# Altium schematic symbol library WR-USB_USB 3.1.SchLib: 7 symbols
Pins are listed as number, name and electrical type; pins without a type are passive.

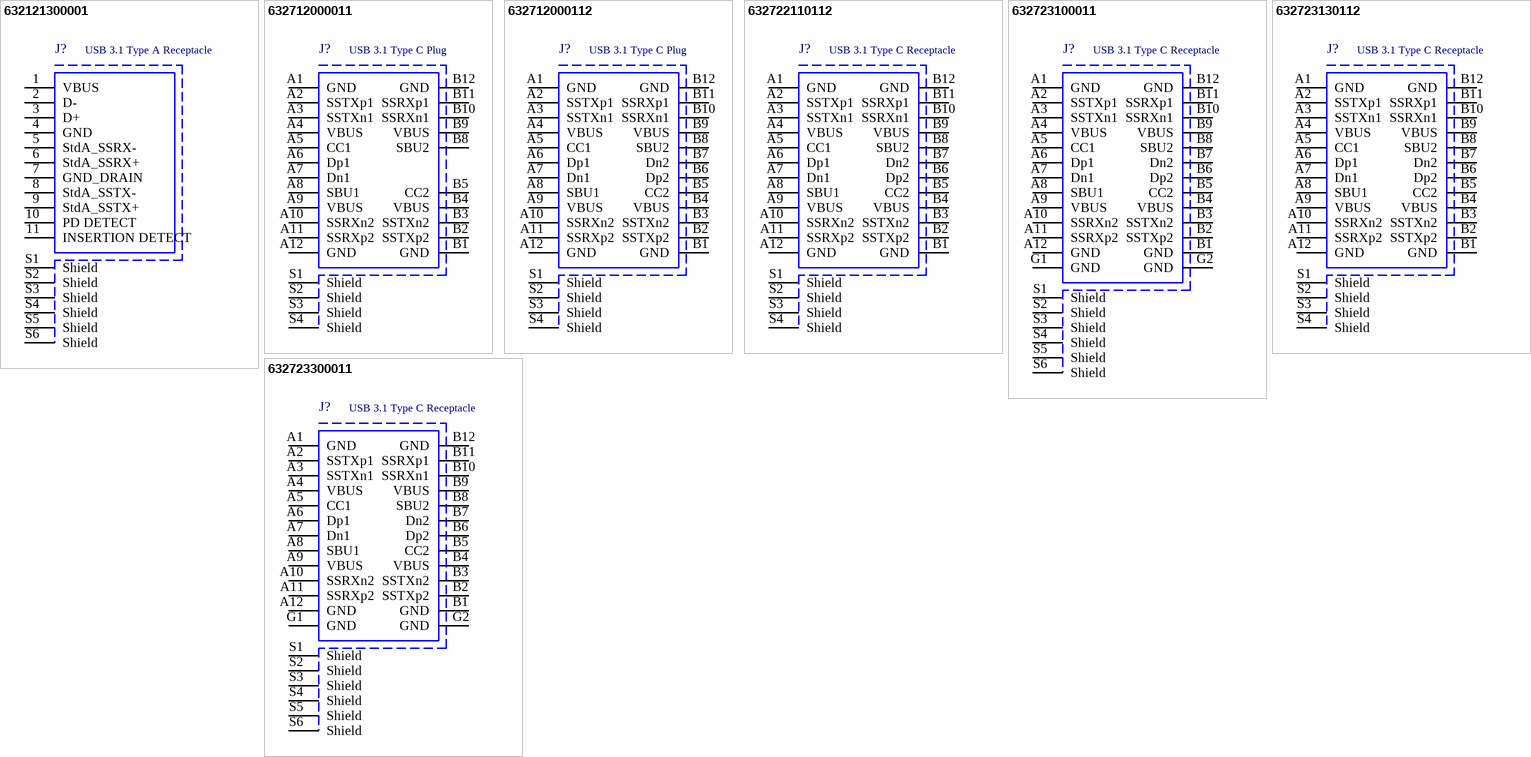
[diagram p0: symbols 632121300001 to 632723300011]

## 632121300001
designator J?, comment USB 3.1 Type A Receptacle
USB 3.1 Type A, Receptacle, Horizontal, THR; Manufacturer: Wurth Elektronik; Manufacturer Part Number: 632121300001; Rated Current: 5A; Pin Number: 9; Interface Type: Type A; Working Voltage: 20VAC; ComponentLink1Description: Manufacturer; ComponentLink1URL: http://www.we-online.de; ComponentLink2Description: Datasheet; ComponentLink2URL: https://katalog.we-online.com/em/datasheet/632121300001.pdf; Published Date: September 2019; Gender: Receptacle; Type: Horizontal; Packaging: Tray; Operating Temperature: -20 to +85degC; Mounting Technology: THR; Application: USB 3.1
footprint 632121300001
pins: 1 VBUS, 2 D-, 3 D+, 4 GND, 5 StdA_SSRX-, 6 StdA_SSRX+, 7 GND_DRAIN, 8 StdA_SSTX-, 9 StdA_SSTX+, 10 PD DETECT, 11 INSERTION DETECT, S1 Shield, S2 Shield, S3 Shield, S4 Shield, S5 Shield, S6 Shield

## 632712000011
designator J?, comment USB 3.1 Type C Plug
USB 3.1 Type C, Plug, Horizontal, SMT; Manufacturer: Wurth Elektronik; Manufacturer Part Number: 632712000011; Rated Current: 5A; Pin Number: 22; Interface Type: Type C; Working Voltage: 20VAC; ComponentLink1Description: Manufacturer; ComponentLink1URL: http://www.we-online.de; ComponentLink2Description: Datasheet; ComponentLink2URL: https://katalog.we-online.com/em/datasheet/632712000011.pdf; Published Date: September 2019; Gender: Plug; Type: Horizontal; Packaging: Tape and Reel; Operating Temperature: -25 to +105degC; Mounting Technology: SMT; Application: USB 3.1
footprint 632712000011
pins: A1 GND, A2 SSTXp1, A3 SSTXn1, A4 VBUS, A5 CC1, A6 Dp1, A7 Dn1, A8 SBU1, A9 VBUS, A10 SSRXn2, A11 SSRXp2, A12 GND, B1 GND, B2 SSTXp2, B3 SSTXn2, B4 VBUS, B5 CC2, B8 SBU2, B9 VBUS, B10 SSRXn1, B11 SSRXp1, B12 GND, S1 Shield, S2 Shield, S3 Shield, S4 Shield

## 632712000112
designator J?, comment USB 3.1 Type C Plug
USB 3.1 Type C, Plug, Horizontal, SMT; Manufacturer: Wurth Elektronik; Manufacturer Part Number: 632712000112; Rated Current: 5A; Pin Number: 24; Interface Type: Type C; Working Voltage: 20VAC; ComponentLink1Description: Manufacturer; ComponentLink1URL: http://www.we-online.de; ComponentLink2Description: Datasheet; ComponentLink2URL: https://katalog.we-online.com/em/datasheet/632712000112.pdf; Published Date: September 2019; Gender: Plug; Type: Horizontal; Packaging: Tray; Operating Temperature: -40 to +85degC; Mounting Technology: SMT; Application: USB 3.1
footprint 632712000112
pins: A1 GND, A2 SSTXp1, A3 SSTXn1, A4 VBUS, A5 CC1, A6 Dp1, A7 Dn1, A8 SBU1, A9 VBUS, A10 SSRXn2, A11 SSRXp2, A12 GND, B1 GND, B2 SSTXp2, B3 SSTXn2, B4 VBUS, B5 CC2, B6 Dp2, B7 Dn2, B8 SBU2, B9 VBUS, B10 SSRXn1, B11 SSRXp1, B12 GND, S1 Shield, S2 Shield, S3 Shield, S4 Shield

## 632722110112
designator J?, comment USB 3.1 Type C Receptacle
USB 3.1 Type C, Receptacle, Vertical, SMT; Manufacturer: Wurth Elektronik; Manufacturer Part Number: 632722110112; Rated Current: 5A; Pin Number: 24; Interface Type: Type C; Working Voltage: 20VAC; ComponentLink1Description: Manufacturer; ComponentLink1URL: http://www.we-online.de; ComponentLink2Description: Datasheet; ComponentLink2URL: https://katalog.we-online.com/em/datasheet/632722110112.pdf; Published Date: September 2019; Gender: Receptacle; Type: Vertical; Packaging: Tape and Reel; Operating Temperature: -40 to +85degC; Mounting Technology: SMT; Application: USB 3.1
footprint 632722110112
pins: A1 GND, A2 SSTXp1, A3 SSTXn1, A4 VBUS, A5 CC1, A6 Dp1, A7 Dn1, A8 SBU1, A9 VBUS, A10 SSRXn2, A11 SSRXp2, A12 GND, B1 GND, B2 SSTXp2, B3 SSTXn2, B4 VBUS, B5 CC2, B6 Dp2, B7 Dn2, B8 SBU2, B9 VBUS, B10 SSRXn1, B11 SSRXp1, B12 GND, S1 Shield, S2 Shield, S3 Shield, S4 Shield

## 632723100011
designator J?, comment USB 3.1 Type C Receptacle
USB 3.1 Type C, Receptacle, Horizontal, THR; Manufacturer: Wurth Elektronik; Manufacturer Part Number: 632723100011; Rated Current: 5A; Pin Number: 24; Interface Type: Type C; Working Voltage: 20VAC; ComponentLink1Description: Manufacturer; ComponentLink1URL: http://www.we-online.de; ComponentLink2Description: Datasheet; ComponentLink2URL: https://katalog.we-online.com/em/datasheet/632723100011.pdf; Published Date: September 2019; Gender: Receptacle; Type: Horizontal; Packaging: Tape and Reel; Operating Temperature: -40 to +105degC; Mounting Technology: THR; Application: USB 3.1
footprint 632723100011
pins: A1 GND, A2 SSTXp1, A3 SSTXn1, A4 VBUS, A5 CC1, A6 Dp1, A7 Dn1, A8 SBU1, A9 VBUS, A10 SSRXn2, A11 SSRXp2, A12 GND, B1 GND, B2 SSTXp2, B3 SSTXn2, B4 VBUS, B5 CC2, B6 Dp2, B7 Dn2, B8 SBU2, B9 VBUS, B10 SSRXn1, B11 SSRXp1, B12 GND, G1 GND, G2 GND, S1 Shield, S2 Shield, S3 Shield, S4 Shield, S5 Shield, S6 Shield

## 632723130112
designator J?, comment USB 3.1 Type C Receptacle
USB 3.1 Type C, Receptacle, Horizontal, THR; Manufacturer: Wurth Elektronik; Manufacturer Part Number: 632723130112; Rated Current: 5A; Pin Number: 24; Interface Type: Type C; Working Voltage: 20VAC; ComponentLink1Description: Manufacturer; ComponentLink1URL: http://www.we-online.de; ComponentLink2Description: Datasheet; ComponentLink2URL: https://katalog.we-online.com/em/datasheet/632723130112.pdf; Published Date: September 2019; Gender: Receptacle; Type: Horizontal; Packaging: Tape and Reel; Operating Temperature: -40 to +85degC; Mounting Technology: THR; Application: USB 3.1
footprint 632723130112
pins: A1 GND, A2 SSTXp1, A3 SSTXn1, A4 VBUS, A5 CC1, A6 Dp1, A7 Dn1, A8 SBU1, A9 VBUS, A10 SSRXn2, A11 SSRXp2, A12 GND, B1 GND, B2 SSTXp2, B3 SSTXn2, B4 VBUS, B5 CC2, B6 Dp2, B7 Dn2, B8 SBU2, B9 VBUS, B10 SSRXn1, B11 SSRXp1, B12 GND, S1 Shield, S2 Shield, S3 Shield, S4 Shield

## 632723300011
designator J?, comment USB 3.1 Type C Receptacle
USB 3.1 Type C, Receptacle, Horizontal, THR; Manufacturer: Wurth Elektronik; Manufacturer Part Number: 632723300011; Rated Current: 5A; Pin Number: 24; Interface Type: Type C; Working Voltage: 20VAC; ComponentLink1Description: Manufacturer; ComponentLink1URL: http://www.we-online.de; ComponentLink2Description: Datasheet; ComponentLink2URL: https://katalog.we-online.com/em/datasheet/632723300011.pdf; Published Date: September 2019; Gender: Receptacle; Type: Horizontal; Packaging: Tape and Reel; Operating Temperature: -40 to +105degC; Mounting Technology: THR; Application: USB 3.1
footprint 632723300011
pins: A1 GND, A2 SSTXp1, A3 SSTXn1, A4 VBUS, A5 CC1, A6 Dp1, A7 Dn1, A8 SBU1, A9 VBUS, A10 SSRXn2, A11 SSRXp2, A12 GND, B1 GND, B2 SSTXp2, B3 SSTXn2, B4 VBUS, B5 CC2, B6 Dp2, B7 Dn2, B8 SBU2, B9 VBUS, B10 SSRXn1, B11 SSRXp1, B12 GND, G1 GND, G2 GND, S1 Shield, S2 Shield, S3 Shield, S4 Shield, S5 Shield, S6 Shield